# Altium footprint library Hi.PcbLib: 1 footprints
Each footprint in its own frame and in the unit in brackets; x right, y up, seen from the top. Pads: shape width x height; smd on the part's side, far side on the other; paste and mask are expansions set on the pad; w line width, h text height; cw(c..) or ccw(c..) is an arc to the next point about the centre after c.
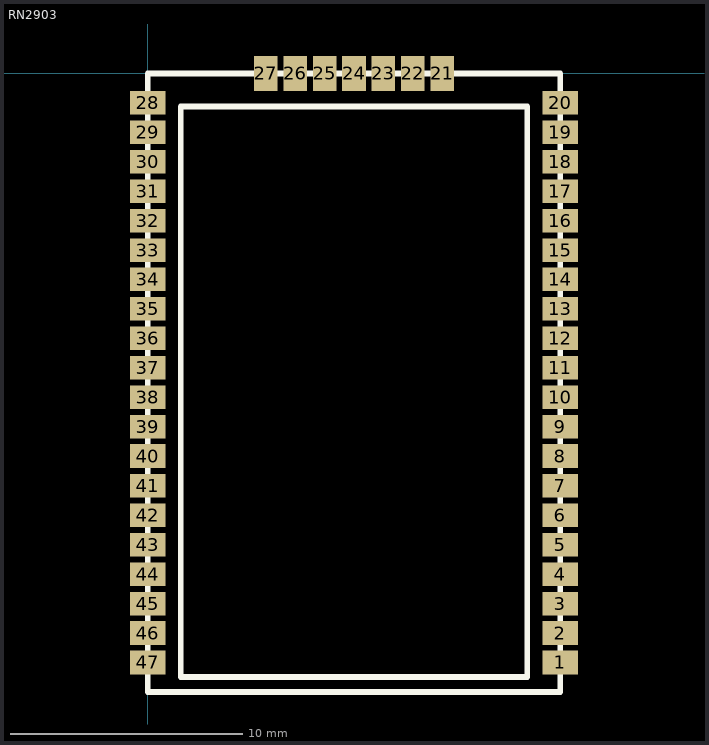
[diagram p0: the footprint, top view; thin cyan lines are the x and y axes]

## RN2903 [mil]
pads (47):
  rect 60x40 smd mask+3.94: 1(700,-999.61) 2(700,-949.61) 3(700,-899.61) 4(700,-849.61) 5(700,-799.61) 6(700,-749.61) 7(700,-699.61) 8(700,-649.21) 9(700,-599.21) 10(700,-549.21) 11(700,-499.21) 12(700,-449.21) 13(700,-399.21) 14(700,-349.21) 15(700,-300) 16(700,-250) 17(700,-200) 18(700,-150) 19(700,-100) 20(700,-50) 28(0,-50) 29(0,-100) 30(0,-150) 31(0,-200) 32(0,-250) 33(0,-300) 34(0,-349.21) 35(0,-399.21) 36(0,-449.21) 37(0,-499.21) 38(0,-549.21) 39(0,-599.21) 40(0,-649.21) 41(0,-699.61) 42(0,-749.61) 43(0,-799.61) 44(0,-849.61) 45(0,-899.61) 46(0,-949.61) 47(0,-999.61)
  rect 40x60 smd mask+3.94: 21(500,0) 22(450,0) 23(400,0) 24(350,0) 25(300,0) 26(250,0) 27(200,0)
Top Overlay:
  lines w10: 0,-1050 0,0 700,0 700,-1050 0,-1050 ; 55.91,-1024.02 55.91,-55.91 644.09,-55.91 644.09,-1024.02 55.91,-1024.02
3D body: height 31.5, standoff 0, extent 0,-1050.2 699.8,0
3D body: height 131.5, standoff 0, extent 56.1,-1023.62 643.7,-56.1